# EAGLE library part XN04601 (library Panasonic)
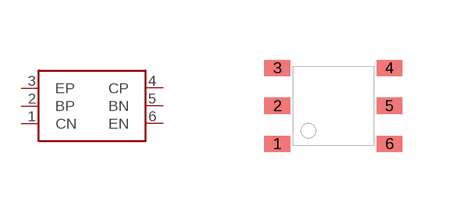
[diagram p1: symbol with the pads of SC-74; footprint SC-74]

Designator prefix -

## XN04601  [SC-74]
1  CN
2  BP
3  EP
4  CP
5  BN
6  EN

## Footprint SC-74 (pad centres in mm)
smd 0.65 x 0.4: 1 -1.4,-0.95; 2 -1.4,0; 3 -1.4,0.95; 4 1.4,0.95; 5 1.4,0; 6 1.4,-0.95